# EAGLE library part HEADER_0.1"_8P_ (library Schuyler)
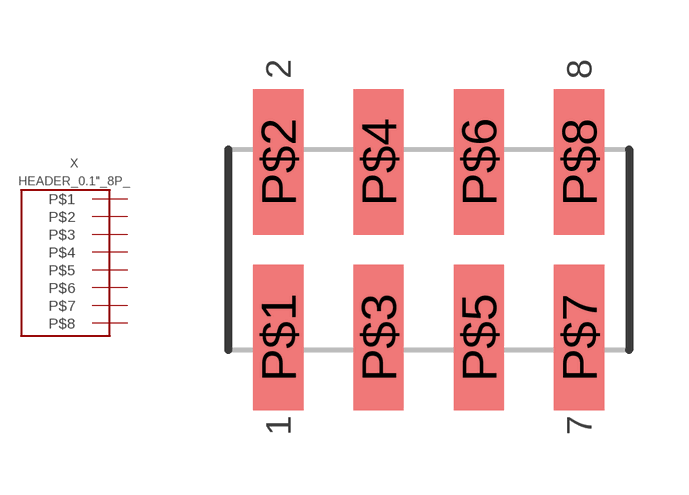
[diagram p23: symbol with the pads of HEADER_8P_2R_SMT; footprint HEADER_8P_2R_SMT]

Designator prefix X

## HEADER_0.1"_8P_2R_SMT (MANPARTNUMBER: 0015912080; MANUFACTURER: Molex Inc; PARTNUMBER: WM17450-ND; SUPPLIER: DIGIKEY; VERIFIED: FALSE)  [HEADER_8P_2R_SMT]
P$1  P$1
P$2  P$2
P$3  P$3
P$4  P$4
P$5  P$5
P$6  P$6
P$7  P$7
P$8  P$8

## Footprint HEADER_8P_2R_SMT (pad centres in mm)
8 pin smt dual row header. http://www.molex.com/pdm_docs/sd/015910100_sd.pdf
smd 1.27 x 3.683: P$1 -3.81,-2.223; P$2 -3.81,2.223; P$3 -1.27,-2.223; P$4 -1.27,2.223; P$5 1.27,-2.223; P$6 1.27,2.223; P$7 3.81,-2.223; P$8 3.81,2.223